# Altium schematic symbol library UPT-04-01-01-L-RA-LC.SchLib: 1 symbol
Pins are listed as number, name and electrical type; pins without a type are passive.

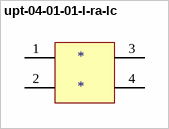
[diagram p0: symbol upt-04-01-01-l-ra-lc]

## upt-04-01-01-l-ra-lc
designator *
footprint UPS-04-01-01-L-RA
footprint UPT-04-03.0-01-L-V
pins: 1 (power), 2, 3, 4